# EAGLE library part FTSH-117-02-L-DH (library Stecker)
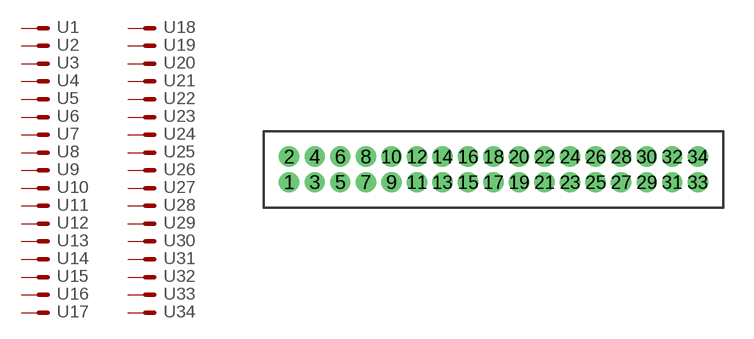
[diagram p3: symbol with the pads of FTSH-117-02-L-DH; footprint FTSH-117-02-L-DH]

Designator prefix -; gates 1=M 2=M 3=M 4=M 5=M 6=M 7=M 8=M 9=M 10=M 11=M 12=M 13=M 14=M 15=M 16=M 17=M 19=M 20=M 21=M 22=M 18=M 23=M 24=M 25=M 26=M 27=M 28=M 29=M 30=M 31=M 32=M 33=M 34=M

## FTSH-117-02-L-DH  [FTSH-117-02-L-DH]
1  1:S  pas
2  2:S  pas
3  3:S  pas
4  4:S  pas
5  5:S  pas
6  6:S  pas
7  7:S  pas
8  8:S  pas
9  9:S  pas
10  10:S  pas
11  11:S  pas
12  12:S  pas
13  13:S  pas
14  14:S  pas
15  15:S  pas
16  16:S  pas
17  17:S  pas
18  18:S  pas
19  19:S  pas
20  20:S  pas
21  21:S  pas
22  22:S  pas
23  23:S  pas
24  24:S  pas
25  25:S  pas
26  26:S  pas
27  27:S  pas
28  28:S  pas
29  29:S  pas
30  30:S  pas
31  31:S  pas
32  32:S  pas
33  33:S  pas
34  34:S  pas

## Footprint FTSH-117-02-L-DH (pad centres in mm)
drill 0.5 pad 1.016: 1 -10.16,-1.27; 2 -10.16,0; 3 -8.89,-1.27; 4 -8.89,0; 5 -7.62,-1.27; 6 -7.62,0; 7 -6.35,-1.27; 8 -6.35,0; 9 -5.08,-1.27; 10 -5.08,0; 11 -3.81,-1.27; 12 -3.81,0; 13 -2.54,-1.27; 14 -2.54,0; 15 -1.27,-1.27; 16 -1.27,0; 17 0,-1.27; 18 0,0; 19 1.27,-1.27; 20 1.27,0; 21 2.54,-1.27; 22 2.54,0; 23 3.81,-1.27; 24 3.81,0; 25 5.08,-1.27; 26 5.08,0; 27 6.35,-1.27; 28 6.35,0; 29 7.62,-1.27; 30 7.62,0; 31 8.89,-1.27; 32 8.89,0; 33 10.16,-1.27; 34 10.16,0